# Altium footprint library 射频微型连接器.PcbLib: 1 footprints
Each footprint in its own frame and in the unit in brackets; x right, y up, seen from the top. Pads: shape width x height; smd on the part's side, far side on the other; paste and mask are expansions set on the pad; w line width, h text height; cw(c..) or ccw(c..) is an arc to the next point about the centre after c.
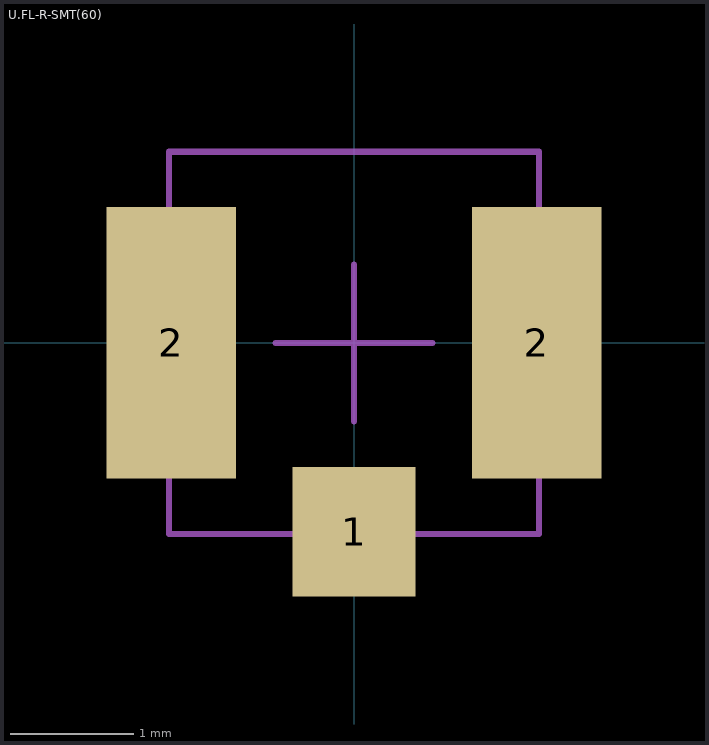
[diagram p0: the footprint, top view; thin cyan lines are the x and y axes]

## U.FL-R-SMT(60) [mm] "DC-6G射频连接器"
height 1.25
pads (3):
  rect 1x1.05 smd: 1(0,-1.53)
  rect 1.05x2.2 smd: 2(-1.48,0) 2(1.48,0)
Mechanical 13:
  lines w0.05: -1.5,-1.55 1.5,-1.55 1.5,1.55 -1.5,1.55 -1.5,-1.55
Mechanical 15:
  lines w0.05: -0.635,0 0.635,0 ; 0,-0.635 0,0.635
3D body: height 1.25, standoff 0, extent -1.5,-1.55 1.5,1.55